# Altium schematic symbol library lmx2595.SchLib: 1 symbol
Pins are listed as number, name and electrical type; pins without a type are passive.

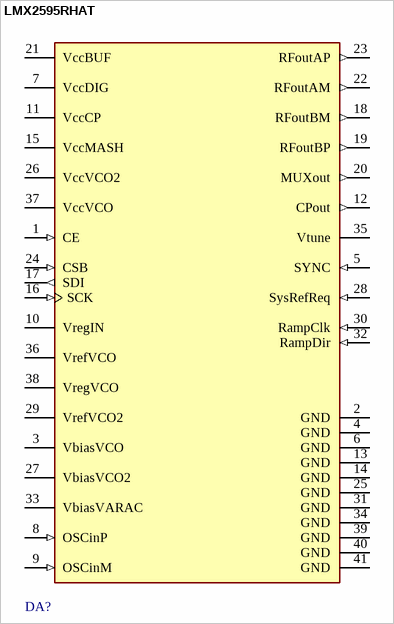
[diagram p0: symbol LMX2595RHAT]

## LMX2595RHAT
designator DA?
pins: 1 CE (in), 2 GND (power), 3 VbiasVCO (power), 4 GND (power), 5 SYNC (in), 6 GND (power), 7 VccDIG (power), 8 OSCinP (in), 9 OSCinM (in), 10 VregIN (power), 11 VccCP (power), 12 CPout (out), 13 GND (power), 14 GND (power), 15 VccMASH (power), 16 SCK (in), 17 SDI (out), 18 RFoutBM (out), 19 RFoutBP (out), 20 MUXout (out), 21 VccBUF (power), 22 RFoutAM (out), 23 RFoutAP (out), 24 CSB (in), 25 GND (power), 26 VccVCO2 (power), 27 VbiasVCO2 (power), 28 SysRefReq (in), 29 VrefVCO2 (power), 30 RampClk (in), 31 GND (power), 32 RampDir (in), 33 VbiasVARAC (power), 34 GND (power), 35 Vtune (power), 36 VrefVCO (power), 37 VccVCO (power), 38 VregVCO (power), 39 GND (power), 40 GND (power), 41 GND (power)